# EAGLE library part MAX4820 (library MAX4820)
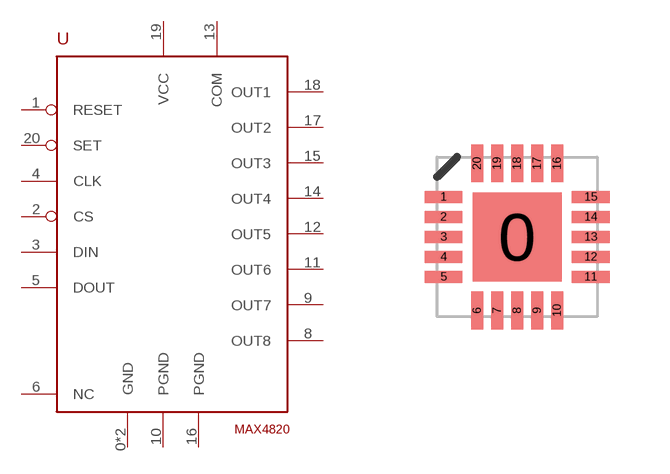
[diagram p0: symbol with the pads of QFN20; footprint QFN20]

Designator prefix -

## MAX4820  [QFN20]
0  GND  pwr
1  RESET  in
2  CS  in
3  DIN  in
4  CLK  in
5  DOUT  out
6  NC  nc
7  GND  pwr
8  OUT8
9  OUT7
10  PGND
11  OUT6
12  OUT5
13  COM
14  OUT4
15  OUT3
16  PGND
17  OUT2
18  OUT1
19  VCC  pwr
20  SET  in

## Footprint QFN20 (pad centres in mm)
smd 2.23 x 2.23: 0 0,0
smd 0.95 x 0.3: 1 -1.84,1; 2 -1.84,0.5; 3 -1.84,0; 4 -1.84,-0.5; 5 -1.84,-1; 11 1.84,-1; 12 1.84,-0.5; 13 1.84,0; 14 1.84,0.5; 15 1.84,1
smd 0.3 x 0.95: 6 -1,-1.84; 7 -0.5,-1.84; 8 0,-1.84; 9 0.5,-1.84; 10 1,-1.84; 16 1,1.84; 17 0.5,1.84; 18 0,1.84; 19 -0.5,1.84; 20 -1,1.84